# Altium schematic symbol library STM32F303C8Y6TR.SchLib: 1 symbol
Pins are listed as number, name and electrical type; pins without a type are passive.

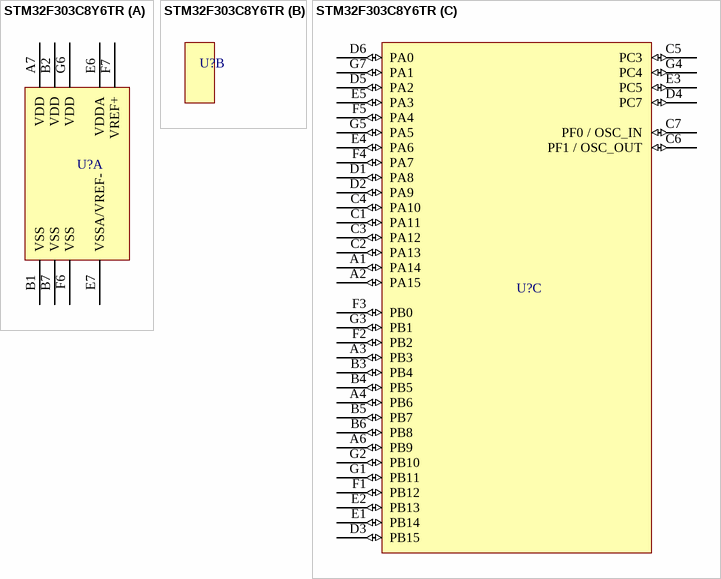
[diagram p0: symbol STM32F303C8Y6TR]

## STM32F303C8Y6TR
designator U?  (value not drawn)
Mainstream Mixed signals MCUs Arm Cortex-M4 core with DSP and FPU, 64 Kbytes of Flash memory, 72 MHz CPU, CCM, 12-bit ADC 5 MSPS, comparators, op-amp
part A pins: A7 VDD (power), B1 VSS (power), B2 VDD (power), B7 VSS (power), E6 VDDA (power), E7 VSSA/VREF- (power), F6 VSS (power), F7 VREF+ (power), G6 VDD (power)
part C pins: A1 PA14 (io), A2 PA15 (io), A3 PB3 (io), A4 PB6 (io), A6 PB9 (io), B3 PB4 (io), B4 PB5 (io), B5 PB7 (io), B6 PB8 (io), C1 PA11 (io), C2 PA13 (io), C3 PA12 (io), C4 PA10 (io), C5 PC3 (io), C6 PF1 / OSC_OUT (io), C7 PF0 / OSC_IN (io), D1 PA8 (io), D2 PA9 (io), D3 PB15 (io), D4 PC7 (io), D5 PA2 (io), D6 PA0 (io), E1 PB14 (io), E2 PB13 (io), E3 PC5 (io), E4 PA6 (io), E5 PA3 (io), F1 PB12 (io), F2 PB2 (io), F3 PB0 (io), F4 PA7 (io), F5 PA4 (io), G1 PB11 (io), G2 PB10 (io), G3 PB1 (io), G4 PC4 (io), G5 PA5 (io), G7 PA1 (io)